# EAGLE library part TIWI-SL (library pcbqr_v3)
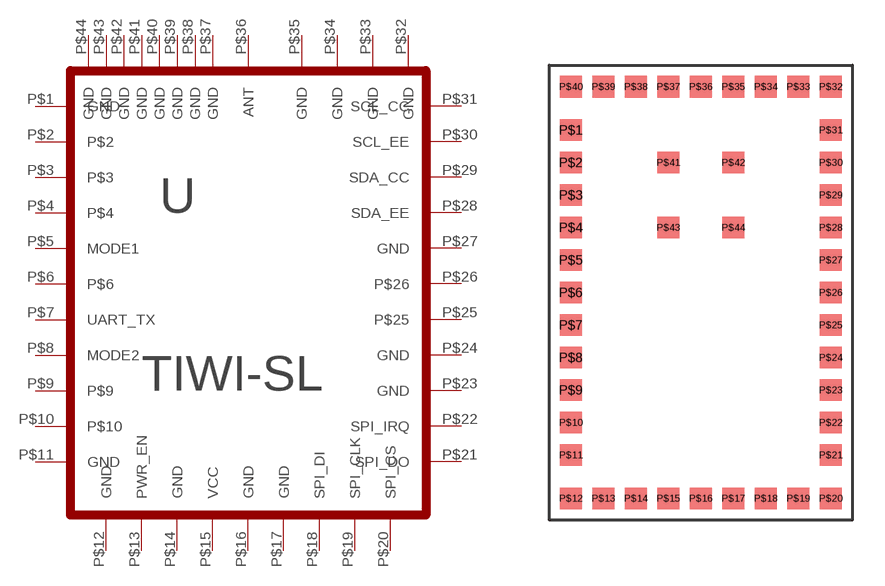
[diagram p4: symbol with the pads of TIWI-SL; footprint TIWI-SL]

Designator prefix -

## TIWI-SL  [TIWI-SL]
P$1  GND
P$2  P$2  nc
P$3  P$3  nc
P$4  P$4  nc
P$5  MODE1
P$6  P$6  nc
P$7  UART_TX
P$8  MODE2
P$9  P$9  nc
P$10  P$10  nc
P$11  GND
P$12  GND
P$13  PWR_EN
P$14  GND
P$15  VCC
P$16  GND
P$17  GND
P$18  SPI_DI
P$19  SPI_CLK
P$20  SPI_CS
P$21  SPI_DO
P$22  SPI_IRQ
P$23  GND
P$24  GND
P$25  P$25  nc
P$26  P$26  nc
P$27  GND
P$28  SDA_EE
P$29  SDA_CC
P$30  SCL_EE
P$31  SCL_CC
P$32  GND
P$33  GND
P$34  GND
P$35  GND
P$36  ANT
P$37  GND
P$38  GND
P$39  GND
P$40  GND
P$41  GND
P$42  GND
P$43  GND
P$44  GND

## Footprint TIWI-SL (pad centres in mm)
smd 1 x 1: P$1 -6,7.5; P$2 -6,6; P$3 -6,4.5; P$4 -6,3; P$5 -6,1.5; P$6 -6,0; P$7 -6,-1.5; P$8 -6,-3; P$9 -6,-4.5; P$10 -6,-6; P$11 -6,-7.5; P$12 -6,-9.5; P$13 -4.5,-9.5; P$14 -3,-9.5; P$15 -1.5,-9.5; P$16 0,-9.5; P$17 1.5,-9.5; P$18 3,-9.5; P$19 4.5,-9.5; P$20 6,-9.5; P$21 6,-7.5; P$22 6,-6; P$23 6,-4.5; P$24 6,-3; P$25 6,-1.5; P$26 6,0; P$27 6,1.5; P$28 6,3; P$29 6,4.5; P$30 6,6; P$31 6,7.5; P$32 6,9.5; P$33 4.5,9.5; P$34 3,9.5; P$35 1.5,9.5; P$36 0,9.5; P$37 -1.5,9.5; P$38 -3,9.5; P$39 -4.5,9.5; P$40 -6,9.5; P$41 -1.5,6; P$42 1.5,6; P$43 -1.5,3; P$44 1.5,3